# Altium schematic symbol library SCH - DRIVER - LED - TI TLC59116_PW_28.SchLib: 1 symbol
Pins are listed as number, name and electrical type; pins without a type are passive.

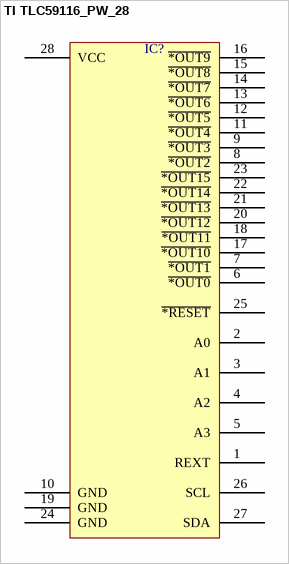
[diagram p0: symbol TI TLC59116_PW_28]

## TI TLC59116_PW_28
designator IC?  (value not drawn)
pins: 1 REXT, 2 A0, 3 A1, 4 A2, 5 A3, 6 ~{*OUT0}, 7 ~{*OUT1}, 8 ~{*OUT2}, 9 ~{*OUT3}, 10 GND, 11 ~{*OUT4}, 12 ~{*OUT5}, 13 ~{*OUT6}, 14 ~{*OUT7}, 15 ~{*OUT8}, 16 ~{*OUT9}, 17 ~{*OUT10}, 18 ~{*OUT11}, 19 GND, 20 ~{*OUT12}, 21 ~{*OUT13}, 22 ~{*OUT14}, 23 ~{*OUT15}, 24 GND, 25 ~{*RESET}, 26 SCL, 27 SDA, 28 VCC